# Altium schematic symbol library lib-VoltageRegulators_sch.SchLib: 4 symbols
Pins are listed as number, name and electrical type; pins without a type are passive.

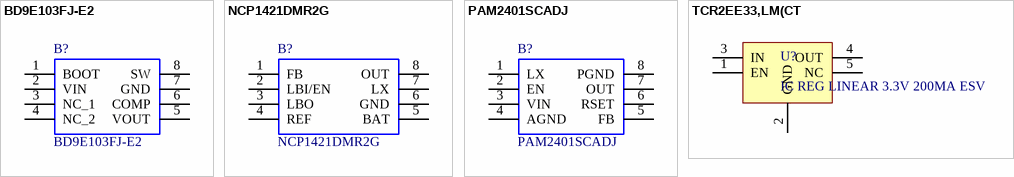
[diagram p0: symbols BD9E103FJ-E2 to TCR2EE33,LM(CT]

## BD9E103FJ-E2
designator B?
Switching Voltage Regulators Sync Buck DC/DC Conv 1.5A MOSFET; 7V-28V; Manufacturer 1: ROHM Semiconductor; Geometry.Height: 1.645mm; Manufacturer Part Number 1: BD9E103FJ-E2; RS Part Number: *; RS Price/Stock: *; Arrow Part Number: BD9E103FJ-E2; Arrow Price/Stock: *; Datasheet Link: https://componentsearchengine.com/Datasheets/1/BD9E103FJ-E2.pdf
footprint SOIC127P600X164-8N
pins: 1 BOOT, 2 VIN (power), 3 NC_1, 4 NC_2, 5 VOUT, 6 COMP, 7 GND, 8 SW

## NCP1421DMR2G
designator B?
Boost Converter, Sync-Rect, PFM, DC-DC, 600 mA, with True-Cutoff and Ring-Killer; Manufacture 1: ON Semiconductor; Geometry.Height: 1.1mm; Manufacturer Part Number 1: NCP1421DMR2G; RS Part Number: 1612674; RS Price/Stock: http://uk.rs-online.com/web/p/products/1612674; Arrow Part Number: NCP1421DMR2G; Arrow Price/Stock: https://www.arrow.com/en/products/ncp1421dmr2g/on-semiconductor; Datasheet Link: http://www.onsemi.com/pub/Collateral/NCP1421-D.PDF; ComponentLink1Description: Datasheet; ComponentLink1URL: http://www.onsemi.com/pub/Collateral/NCP1421-D.PDF
footprint SOP65P490X110-8N
pins: 1 FB, 2 LBI/EN, 3 LBO, 4 REF, 5 BAT, 6 GND, 7 LX, 8 OUT

## PAM2401SCADJ
designator B?
DiodesZetex PAM2401SCADJ, Step Down DC-DC Converter, 1000mA, Adjustable, 2.5  5 V, 8-Pin MSOP 8; Manufacturer 1: Diodes Inc.; Geometry.Height: 1.1mm; Manufacturer Part Number 1: PAM2401SCADJ; RS Part Number: 9210767P; RS Price/Stock: http://uk.rs-online.com/web/p/products/9210767P; Arrow Part Number: PAM2401SCADJ; Arrow Price/Stock: https://www.arrow.com/en/products/pam2401scadj/diodes-incorporated; Datasheet Link: https://www.diodes.com/assets/Datasheets/PAM2401.pdf
footprint SOP65P490X110-8N
pins: 1 LX, 2 EN, 3 VIN, 4 AGND, 5 FB, 6 RSET, 7 OUT, 8 PGND

## TCR2EE33,LM(CT
designator U?, comment IC REG LINEAR 3.3V 200MA ESV
Linear Voltage Regulator IC Positive Fixed 1 Output  200mA ESV; Manufacturer 1: Toshiba Semiconductor and Storage; Manufacturer Part Number 1: TCR2EE33,LM(CT; Supplier 1: Digikey; Supplier Part Number 1: TCR2EE33LM(CTCT-ND; ComponentLink1Description: Datasheet; ComponentLink1URL: https://toshiba.semicon-storage.com/info/docget.jsp?did=13794&prodName=TCR2EF45
footprint TCR2EE33,LM(CT (SOT-553 / TCR2EE33,LM(CT)
pins: 1 EN "'CONTROL' ON DATASHEET", 2 GND, 3 IN, 4 OUT, 5 NC